# EAGLE library part FT232 (library Shohei)
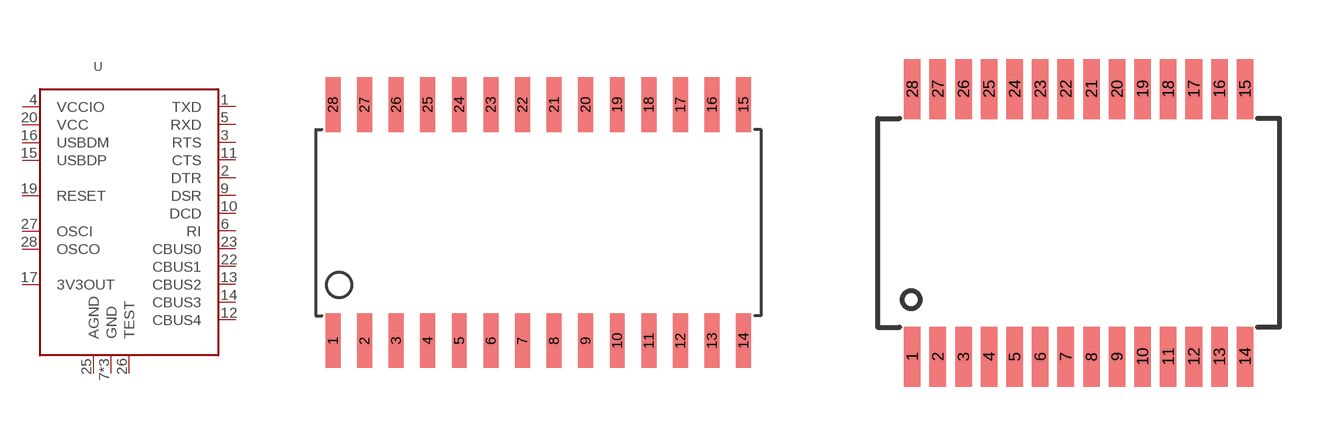
[diagram p15: symbol with the pads of SOIC28; footprints SOIC28, SSOP28]

Designator prefix U

## FT232  [SOIC28]
1  TXD
2  DTR
3  RTS
4  VCCIO
5  RXD
6  RI
7  GND
9  DSR
10  DCD
11  CTS
12  CBUS4
13  CBUS2
14  CBUS3
15  USBDP
16  USBDM
17  3V3OUT
18  GND
19  RESET
20  VCC
21  GND
22  CBUS1
23  CBUS0
25  AGND
26  TEST
27  OSCI
28  OSCO

## FT232RL  [SSOP28]
Pads as for SOIC28

## Footprint SOIC28 (pad centres in mm)
smd 0.6 x 2.2: 1 -8.255,-4.75; 2 -6.985,-4.75; 3 -5.715,-4.75; 4 -4.445,-4.75; 5 -3.175,-4.75; 6 -1.905,-4.75; 7 -0.635,-4.75; 8 0.635,-4.75; 9 1.905,-4.75; 10 3.175,-4.75; 11 4.445,-4.75; 12 5.715,-4.75; 13 6.985,-4.75; 14 8.255,-4.75; 15 8.255,4.75; 16 6.985,4.75; 17 5.715,4.75; 18 4.445,4.75; 19 3.175,4.75; 20 1.905,4.75; 21 0.635,4.75; 22 -0.635,4.75; 23 -1.905,4.75; 24 -3.175,4.75; 25 -4.445,4.75; 26 -5.715,4.75; 27 -6.985,4.75; 28 -8.255,4.75

## Footprint SSOP28 (pad centres in mm)
smd 0.42 x 1.524: 1 -4.225,-3.402; 2 -3.575,-3.402; 3 -2.925,-3.402; 4 -2.275,-3.402; 5 -1.625,-3.402; 6 -0.975,-3.402; 7 -0.325,-3.402; 8 0.325,-3.402; 9 0.975,-3.402; 10 1.625,-3.402; 11 2.275,-3.402; 12 2.925,-3.402; 13 3.575,-3.402; 14 4.225,-3.402; 15 4.225,3.402; 16 3.575,3.402; 17 2.925,3.402; 18 2.275,3.402; 19 1.625,3.402; 20 0.975,3.402; 21 0.325,3.402; 22 -0.325,3.402; 23 -0.975,3.402; 24 -1.625,3.402; 25 -2.275,3.402; 26 -2.925,3.402; 27 -3.575,3.402; 28 -4.225,3.402